# EAGLE library part ACS715_CURRENT_SENSOR (library HyTechDevices)
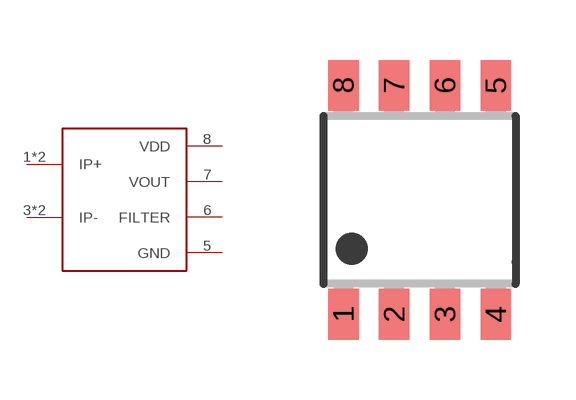
[diagram p93: symbol with the pads of SOP8; footprint SOP8]

Designator prefix -

## ACS715_CURRENT_SENSOR  [SOP8]
1  IP+
2  IP+
3  IP-
4  IP-
5  GND
6  FILTER
7  VOUT
8  VDD

## Footprint SOP8 (pad centres in mm)
Small Outline Package 8 8P2S-A Plastic 8pin 225mil SOP Source: Mitsubishi M5218AL/P/FP
smd 0.76 x 1.27: 1 -1.905,-2.86; 2 -0.635,-2.86; 3 0.635,-2.86; 4 1.905,-2.86; 5 1.905,2.86; 6 0.635,2.86; 7 -0.635,2.86; 8 -1.905,2.86